# Altium schematic symbol library SCH - MCU - NUVOTON - NUVOTON M479SG8AE.SchLib: 1 symbol
Pins are listed as number, name and electrical type; pins without a type are passive.

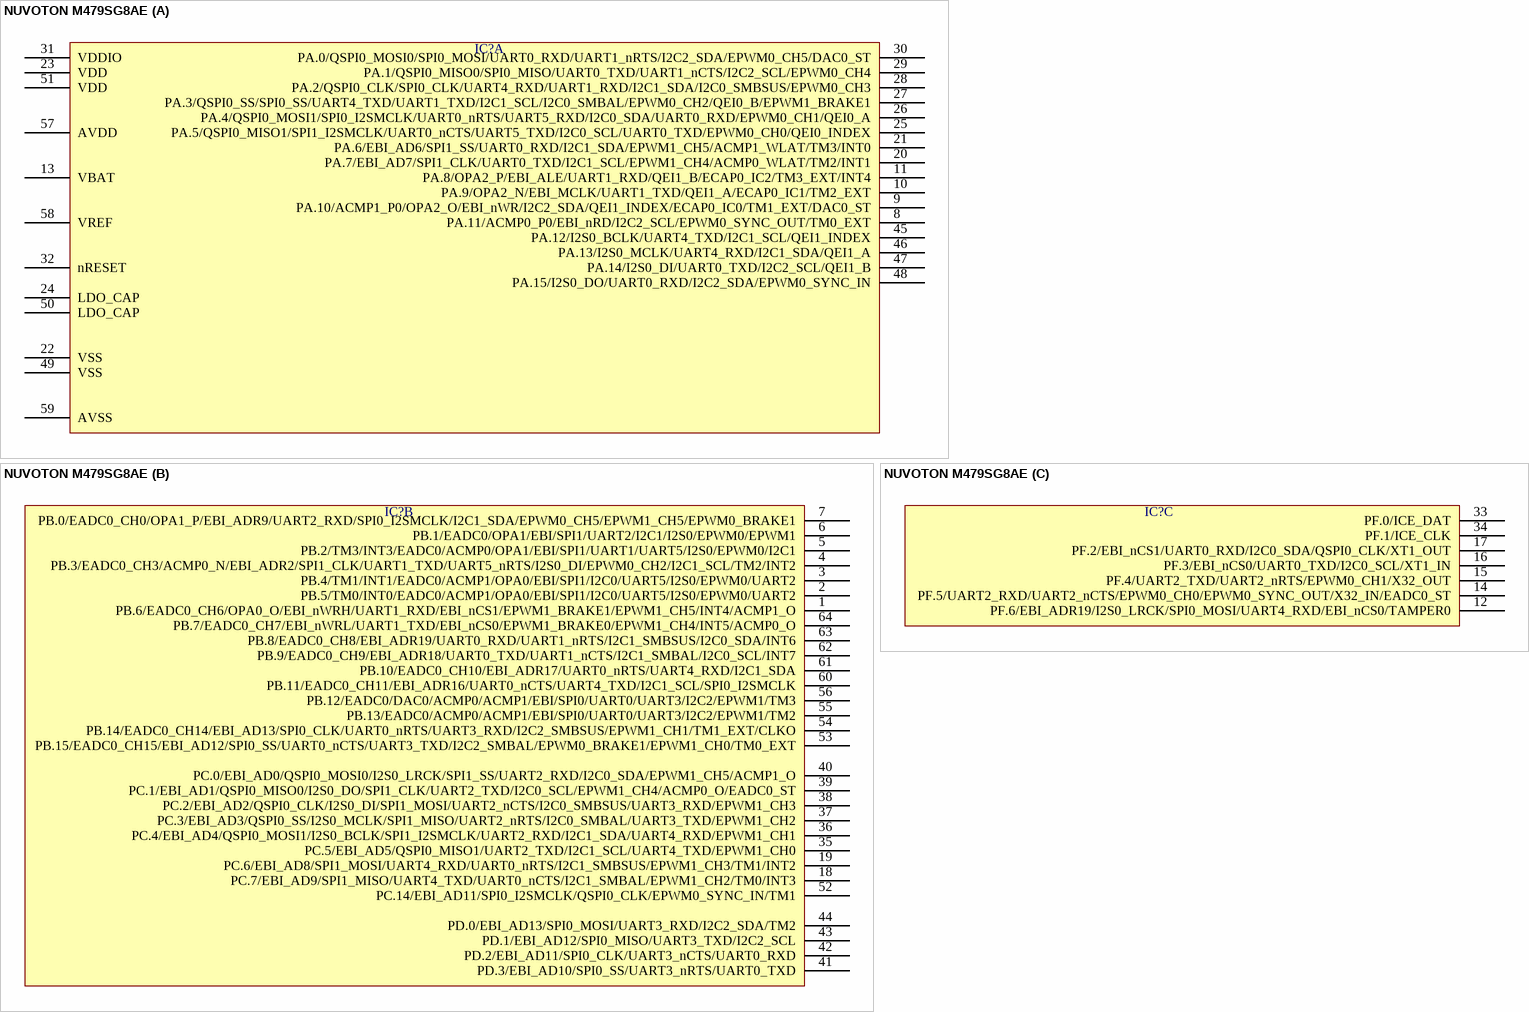
[diagram p0: symbol NUVOTON M479SG8AE]

## NUVOTON M479SG8AE
designator IC?  (value not drawn)
part A pins: 8 PA.11/ACMP0_P0/EBI_nRD/I2C2_SCL/EPWM0_SYNC_OUT/TM0_EXT, 9 PA.10/ACMP1_P0/OPA2_O/EBI_nWR/I2C2_SDA/QEI1_INDEX/ECAP0_IC0/TM1_EXT/DAC0_ST, 10 PA.9/OPA2_N/EBI_MCLK/UART1_TXD/QEI1_A/ECAP0_IC1/TM2_EXT, 11 PA.8/OPA2_P/EBI_ALE/UART1_RXD/QEI1_B/ECAP0_IC2/TM3_EXT/INT4, 13 VBAT, 20 PA.7/EBI_AD7/SPI1_CLK/UART0_TXD/I2C1_SCL/EPWM1_CH4/ACMP0_WLAT/TM2/INT1, 21 PA.6/EBI_AD6/SPI1_SS/UART0_RXD/I2C1_SDA/EPWM1_CH5/ACMP1_WLAT/TM3/INT0, 22 VSS, 23 VDD, 24 LDO_CAP, 25 PA.5/QSPI0_MISO1/SPI1_I2SMCLK/UART0_nCTS/UART5_TXD/I2C0_SCL/UART0_TXD/EPWM0_CH0/QEI0_INDEX, 26 PA.4/QSPI0_MOSI1/SPI0_I2SMCLK/UART0_nRTS/UART5_RXD/I2C0_SDA/UART0_RXD/EPWM0_CH1/QEI0_A, 27 PA.3/QSPI0_SS/SPI0_SS/UART4_TXD/UART1_TXD/I2C1_SCL/I2C0_SMBAL/EPWM0_CH2/QEI0_B/EPWM1_BRAKE1, 28 PA.2/QSPI0_CLK/SPI0_CLK/UART4_RXD/UART1_RXD/I2C1_SDA/I2C0_SMBSUS/EPWM0_CH3, 29 PA.1/QSPI0_MISO0/SPI0_MISO/UART0_TXD/UART1_nCTS/I2C2_SCL/EPWM0_CH4, 30 PA.0/QSPI0_MOSI0/SPI0_MOSI/UART0_RXD/UART1_nRTS/I2C2_SDA/EPWM0_CH5/DAC0_ST, 31 VDDIO, 32 nRESET, 45 PA.12/I2S0_BCLK/UART4_TXD/I2C1_SCL/QEI1_INDEX, 46 PA.13/I2S0_MCLK/UART4_RXD/I2C1_SDA/QEI1_A, 47 PA.14/I2S0_DI/UART0_TXD/I2C2_SCL/QEI1_B, 48 PA.15/I2S0_DO/UART0_RXD/I2C2_SDA/EPWM0_SYNC_IN, 49 VSS, 50 LDO_CAP, 51 VDD, 57 AVDD, 58 VREF, 59 AVSS
part B pins: 1 PB.6/EADC0_CH6/OPA0_O/EBI_nWRH/UART1_RXD/EBI_nCS1/EPWM1_BRAKE1/EPWM1_CH5/INT4/ACMP1_O, 2 PB.5/TM0/INT0/EADC0/ACMP1/OPA0/EBI/SPI1/I2C0/UART5/I2S0/EPWM0/UART2, 3 PB.4/TM1/INT1/EADC0/ACMP1/OPA0/EBI/SPI1/I2C0/UART5/I2S0/EPWM0/UART2, 4 PB.3/EADC0_CH3/ACMP0_N/EBI_ADR2/SPI1_CLK/UART1_TXD/UART5_nRTS/I2S0_DI/EPWM0_CH2/I2C1_SCL/TM2/INT2, 5 PB.2/TM3/INT3/EADC0/ACMP0/OPA1/EBI/SPI1/UART1/UART5/I2S0/EPWM0/I2C1, 6 PB.1/EADC0/OPA1/EBI/SPI1/UART2/I2C1/I2S0/EPWM0/EPWM1, 7 PB.0/EADC0_CH0/OPA1_P/EBI_ADR9/UART2_RXD/SPI0_I2SMCLK/I2C1_SDA/EPWM0_CH5/EPWM1_CH5/EPWM0_BRAKE1, 18 PC.7/EBI_AD9/SPI1_MISO/UART4_TXD/UART0_nCTS/I2C1_SMBAL/EPWM1_CH2/TM0/INT3, 19 PC.6/EBI_AD8/SPI1_MOSI/UART4_RXD/UART0_nRTS/I2C1_SMBSUS/EPWM1_CH3/TM1/INT2, 35 PC.5/EBI_AD5/QSPI0_MISO1/UART2_TXD/I2C1_SCL/UART4_TXD/EPWM1_CH0, 36 PC.4/EBI_AD4/QSPI0_MOSI1/I2S0_BCLK/SPI1_I2SMCLK/UART2_RXD/I2C1_SDA/UART4_RXD/EPWM1_CH1, 37 PC.3/EBI_AD3/QSPI0_SS/I2S0_MCLK/SPI1_MISO/UART2_nRTS/I2C0_SMBAL/UART3_TXD/EPWM1_CH2, 38 PC.2/EBI_AD2/QSPI0_CLK/I2S0_DI/SPI1_MOSI/UART2_nCTS/I2C0_SMBSUS/UART3_RXD/EPWM1_CH3, 39 PC.1/EBI_AD1/QSPI0_MISO0/I2S0_DO/SPI1_CLK/UART2_TXD/I2C0_SCL/EPWM1_CH4/ACMP0_O/EADC0_ST, 40 PC.0/EBI_AD0/QSPI0_MOSI0/I2S0_LRCK/SPI1_SS/UART2_RXD/I2C0_SDA/EPWM1_CH5/ACMP1_O, 41 PD.3/EBI_AD10/SPI0_SS/UART3_nRTS/UART0_TXD, 42 PD.2/EBI_AD11/SPI0_CLK/UART3_nCTS/UART0_RXD, 43 PD.1/EBI_AD12/SPI0_MISO/UART3_TXD/I2C2_SCL, 44 PD.0/EBI_AD13/SPI0_MOSI/UART3_RXD/I2C2_SDA/TM2, 52 PC.14/EBI_AD11/SPI0_I2SMCLK/QSPI0_CLK/EPWM0_SYNC_IN/TM1, 53 PB.15/EADC0_CH15/EBI_AD12/SPI0_SS/UART0_nCTS/UART3_TXD/I2C2_SMBAL/EPWM0_BRAKE1/EPWM1_CH0/TM0_EXT, 54 PB.14/EADC0_CH14/EBI_AD13/SPI0_CLK/UART0_nRTS/UART3_RXD/I2C2_SMBSUS/EPWM1_CH1/TM1_EXT/CLKO, 55 PB.13/EADC0/ACMP0/ACMP1/EBI/SPI0/UART0/UART3/I2C2/EPWM1/TM2, 56 PB.12/EADC0/DAC0/ACMP0/ACMP1/EBI/SPI0/UART0/UART3/I2C2/EPWM1/TM3, 60 PB.11/EADC0_CH11/EBI_ADR16/UART0_nCTS/UART4_TXD/I2C1_SCL/SPI0_I2SMCLK, 61 PB.10/EADC0_CH10/EBI_ADR17/UART0_nRTS/UART4_RXD/I2C1_SDA, 62 PB.9/EADC0_CH9/EBI_ADR18/UART0_TXD/UART1_nCTS/I2C1_SMBAL/I2C0_SCL/INT7, 63 PB.8/EADC0_CH8/EBI_ADR19/UART0_RXD/UART1_nRTS/I2C1_SMBSUS/I2C0_SDA/INT6, 64 PB.7/EADC0_CH7/EBI_nWRL/UART1_TXD/EBI_nCS0/EPWM1_BRAKE0/EPWM1_CH4/INT5/ACMP0_O
part C pins: 12 PF.6/EBI_ADR19/I2S0_LRCK/SPI0_MOSI/UART4_RXD/EBI_nCS0/TAMPER0, 14 PF.5/UART2_RXD/UART2_nCTS/EPWM0_CH0/EPWM0_SYNC_OUT/X32_IN/EADC0_ST, 15 PF.4/UART2_TXD/UART2_nRTS/EPWM0_CH1/X32_OUT, 16 PF.3/EBI_nCS0/UART0_TXD/I2C0_SCL/XT1_IN, 17 PF.2/EBI_nCS1/UART0_RXD/I2C0_SDA/QSPI0_CLK/XT1_OUT, 33 PF.0/ICE_DAT, 34 PF.1/ICE_CLK